# EAGLE library part HC_05 (library CasaLibrary)
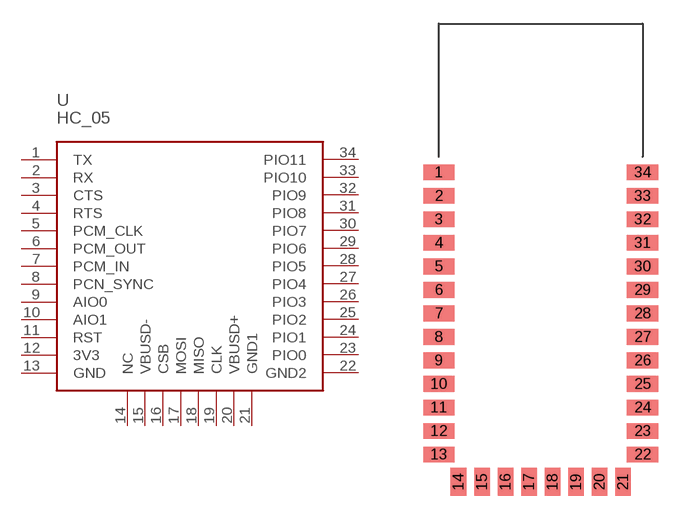
[diagram p11: symbol with the pads of BLUETOOTH_SMD; footprint BLUETOOTH_SMD]

Designator prefix U

## HC_05  [BLUETOOTH_SMD]
1  TX
2  RX
3  CTS
4  RTS
5  PCM_CLK
6  PCM_OUT
7  PCM_IN
8  PCN_SYNC
9  AIO0
10  AIO1
11  RST
12  3V3
13  GND
14  NC
15  VBUSD-
16  CSB
17  MOSI
18  MISO
19  CLK
20  VBUSD+
21  GND1
22  GND2
23  PIO0
24  PIO1
25  PIO2
26  PIO3
27  PIO4
28  PIO5
29  PIO6
30  PIO7
31  PIO8
32  PIO9
33  PIO10
34  PIO11

## Footprint BLUETOOTH_SMD (pad centres in mm)
smd 2 x 1: 1 0,0; 2 0,-1.5; 3 0,-3; 4 0,-4.5; 5 0,-6; 6 0,-7.5; 7 0,-9; 8 0,-10.5; 9 0,-12; 10 0,-13.5; 11 0,-15; 12 0,-16.5; 13 0,-18; 22 13,-18; 23 13,-16.5; 24 13,-15; 25 13,-13.5; 26 13,-12; 27 13,-10.5; 28 13,-9; 29 13,-7.5; 30 13,-6; 31 13,-4.5; 32 13,-3; 33 13,-1.5; 34 13,0
smd 1 x 1.8: 14 1.25,-19.75; 15 2.75,-19.75; 16 4.25,-19.75; 17 5.75,-19.75; 18 7.25,-19.75; 19 8.75,-19.75; 20 10.25,-19.75; 21 11.75,-19.75